# Altium schematic symbol library Lib Sch Compo.SchLib: 155 symbols
Pins are listed as number, name and electrical type; pins without a type are passive.

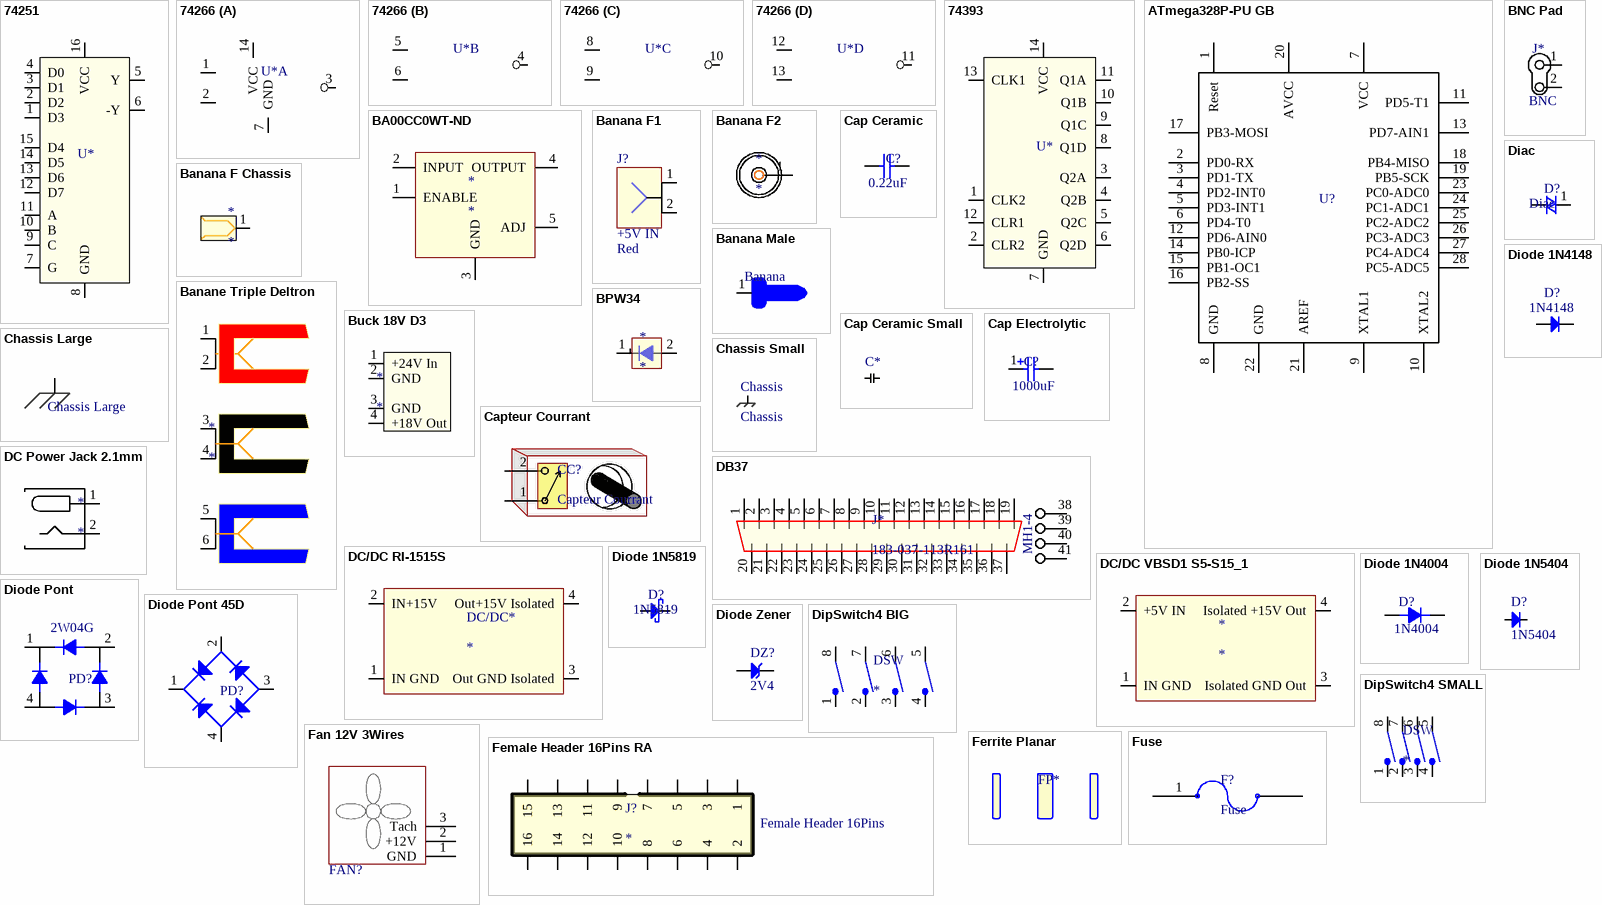
[diagram p0: symbols 74251 to Fuse]

## 74251
designator U*  (value not drawn)
74251
pins: 1 D3, 2 D2, 3 D1, 4 D0, 5 Y, 6 -Y, 7 G, 8 GND, 9 C, 10 B, 11 A, 12 D7, 13 D6, 14 D5, 15 D4, 16 VCC

## 74266
designator U*  (value not drawn)
74266
part A pins: 1, 2, 3, 7 GND, 14 VCC
part B pins: 4, 5, 6
part C pins: 8, 9, 10
part D pins: 11, 12, 13

## 74393
designator U*  (value not drawn)
74393
pins: 1 CLK2, 2 CLR2, 3 Q2A, 4 Q2B, 5 Q2C, 6 Q2D, 7 GND, 8 Q1D, 9 Q1C, 10 Q1B, 11 Q1A, 12 CLR1, 13 CLK1, 14 VCC

## ATmega328P-PU GB
designator U?
Atmel 28Dip Arduino; Published: 1-Apr-2010; DatasheetVersion: revA, Jan-2010; PackageVersion: revB, Sep-2001; PackageReference: 28P3; Publisher: Altium Limited; PackageDescription: 28-lead (0.300"/7.62mm Wide) Plastic Dual Inline Package (PDIP); Supplier 1: Digi-Key; Supplier Part Number 1: ATMEGA328P-PU-ND; Supplier 2: Farnell; Supplier Part Number 2: 1715487; Supplier 3: Mouser; Supplier Part Number 3: 556-ATMEGA328P-PU; ComponentLink1Description: Manufacturer Link; ComponentLink1URL: http://www.atmel.com/products/avr/default.asp?; ComponentLink2Description: ATmega48A/48PA/88A/88PA/168A/168PA/328/328P Datasheet; ComponentLink2URL: http://www.atmel.com/dyn/resources/prod_documents/8271.pdf; ComponentLink3Description: ATmega48A/48PA/88A/88PA/168A/168PA/328/328P Summary; ComponentLink3URL: http://www.atmel.com/dyn/resources/prod_documents/8271S.pdf; ComponentLink4Description: Atmel.com Home; ComponentLink4URL: http://www.atmel.com
footprint DIP28
pins: 1 Reset, 2 PD0-RX, 3 PD1-TX, 4 PD2-INT0, 5 PD3-INT1, 6 PD4-T0, 7 VCC (power), 8 GND (power), 9 XTAL1, 10 XTAL2, 11 PD5-T1, 12 PD6-AIN0, 13 PD7-AIN1, 14 PB0-ICP, 15 PB1-OC1, 16 PB2-SS, 17 PB3-MOSI, 18 PB4-MISO, 19 PB5-SCK, 20 AVCC (power), 21 AREF (power), 22 GND (power), 23 PC0-ADC0, 24 PC1-ADC1, 25 PC2-ADC2, 26 PC3-ADC3, 27 PC4-ADC4, 28 PC5-ADC5

## BA00CC0WT-ND
designator *
Regulator Variable
footprint TO220FP-5 (TO220 Full Body)
pins: 1 ENABLE, 2 INPUT, 3 GND, 4 OUTPUT, 5 ADJ

## Banana F1
designator J?  Free Text: +5V IN  Color: Red  (hidden comment: Banana F1)
Banana Female; LatestRevisionDate: 17-Jul-2002; LatestRevisionNote: Re-released for DXP Platform.; Publisher: Altium Limited
signal-integrity model Connector
footprint Banana Plug Deltron
footprint Banane Miniature
pins: 1, 2

## Banana F2
designator *
Banana Female Safety
pins: 1

## Banana F Chassis
designator *
Banana F Chassis
footprint Banane Miniature
pins: 1

## Banana Male
designator Banana  (value not drawn)
Banana for Cable
footprint Chassis Pad .375 (Chassis Pad)
footprint Banane Male (Johnson 108-0753-001)
pins: 1

## Banane Triple Deltron
designator *
Banane Triple Deltron
footprint Banana Plug Deltron Triple
pins: 1, 2, 3, 4, 5, 6

## BNC Pad
designator J*  Usage: BNC  (hidden comment: BNC Pad)
footprint BNC Pad
pins: 1, 2

## BPW34
designator *
Photo Diode
footprint bpw34 (BPW34 Trough Hole)
pins: 1, 2

## Buck 18V D3
designator *
Buck 18V D3
footprint Buck 18V D3
pins: 1 +24V In, 2 GND, 3 GND, 4 +18V Out

## Cap Ceramic
designator C?  value 0.22uF  (hidden comment: Cap Ceramic)
Published: 8-Jun-2000; LatestRevisionDate: 17-Jul-2002; LatestRevisionNote: Re-released for DXP Platform.; PackageReference: RAD-0.3; Publisher: Altium Limited; PackageDescription: Radial Cap, Thru-Hole; 2 Leads; 0.3 in Pin Spacing
simulation model CAP (Capacitor)
signal-integrity model Cap
footprint Cap CER RAD-0.1
footprint Cap CER RAD-0.15
footprint Cap CER RAD-0.2
footprint Cap CER RAD-0.2 Big
footprint Cap CER RAD-0.3
footprint Cap CER RAD-0.9
footprint Cap Film 1102x1654 (Cap Film 1654x1102)
footprint Cap Film 150x520
footprint Cap Film 200x520
footprint Cap Film 230x700
footprint Cap Film 450x660 (Cap 660x450)
pins: 1, 2

## Cap Ceramic Small
designator C*  (value not drawn)
Cap Ceramic
footprint Cap CER RAD-0.1
footprint Cap CER RAD-0.15
footprint Cap CER RAD-0.2
footprint Cap CER RAD-0.2 Big
footprint Cap CER RAD-0.3
pins: 1, 2

## Cap Electrolytic
designator C?  value 1000uF  (hidden comment: Cap Electrolytic)
Published: 8-Jun-2000; LatestRevisionDate: 17-Jul-2002; LatestRevisionNote: Re-released for DXP Platform.; PackageReference: RB7.6-15; Publisher: Altium Limited; PackageDescription: Polarized Capacitor (Radial); 2 Leads
simulation model CAP (Capacitor)
signal-integrity model Cap Pol
footprint Cap Rad Round 0.325D 0.2Pad (Electrolytic Radial - 0.325D / 0.2Pad)
footprint Cap Rad Round 0.510D 0.2Pad (Electrolytic Radial - 0.510D / 0.2Pad)
footprint Cap Rad Round 0.210D 0.1Pad (Cap Rad Round 0.210 0.1Pad)
footprint Cap Rad Round 0.210D 0.15Pad (Cap Rad Round 0.210 0.15Pad)
footprint Cap Rad Round 0.400D 0.2Pad
footprint Cap Rad Round 0.260D 0.1Pad (Cap Rad Round 0.260 0.1Pad)
footprint Cap Rad Round 0.260D 0.15Pad (Cap Rad Round 0.260 0.15Pad)
pins: 1 +, 2
1 alternate drawing of the same symbol

## Capteur Courrant
designator CC?
Capteur de Courrant
pins: 1, 2

## Chassis Large
designator ?
Chassis Symbol
footprint Chassis Pad
pins: 1 (power) "Chassis"

## Chassis Small
designator Chassis, comment Chassis
Chassis Symbol
footprint Chassis Pad
pins: 1 (power) "Chassis Connection"

## DB37
designator J*, comment 183-037-113R161
DB37 RA PCB Pins Norcomp
pins: 1, 2, 3, 4, 5, 6, 7, 8, 9, 10, 11, 12, 13, 14, 15, 16, 17, 18, 19, 20, 21, 22, 23, 24, 25, 26, 27, 28, 29, 30, 31, 32, 33, 34, 35, 36, 37, 38, 39, 40, 41
text: MH1-4

## DC Power Jack 2.1mm
designator *
Power Jack
footprint DC Power Jack 2.1mm (CUI  PJ-063AH)
pins: 1, 2

## DC/DC RI-1515S
designator DC/DC*
DC/DC
pins: 1 IN GND, 2 IN+15V, 3 Out GND Isolated, 4 Out+15V Isolated

## DC/DC VBSD1 S5-S15_1
designator *
DC/DC
footprint DC/DC VBSD1 (DC/DC)
pins: 1 IN GND, 2 +5V IN, 3 Isolated GND Out, 4 Isolated +15V Out

## Diac
designator D?
Published: 8-Jun-2000; LatestRevisionDate: 17-Jul-2002; LatestRevisionNote: Re-released for DXP Platform.; DatasheetVersion: 1997; PackageReference: DO-35; Publisher: Altium Limited; PackageDescription: Diode, Axial; Body 3.8 x 1.9 mm (LxDia. max), Lead Dia. 0.53 mm (max); Code_JEDEC: DO-204-AH; ComponentLink1Description: Manufacturer Link; ComponentLink1URL: http://www.fairchildsemi.com/; ComponentLink2Description: Datasheet; ComponentLink2URL: http://www.fairchildsemi.com/ds/1N%2F1N4148.pdf
footprint DO-35 (Diode, Axial; Body 3.8 x 1.9 mm (LxDia. max), Lead Dia. 0.53 mm (max))
footprint DO-35A - UL (Diode, Axial; Body 4.6 x 1.9 mm (LxDia. max), Lead Dia. 0.53 mm (max))
footprint DO-35 Diode
pins: 1 K, 2 A

## Diode 1N4004
designator D?  value 1N4004  (hidden comment: Diode 1N4004)
Diode; Published: 8-Jun-2000; LatestRevisionDate: 17-Jul-2002; LatestRevisionNote: Re-released for DXP Platform.; PackageReference: AXIAL-0.4; Publisher: Altium Limited; PackageDescription: Axial Device, Thru-Hole; 2 Leads; 0.4 in Pin Spacing
footprint DO-41 (Diode 400mil Spacin)
pins: 1, 2

## Diode 1N4148
designator D?, comment 1N4148
Diode; Published: 8-Jun-2000; LatestRevisionDate: 17-Jul-2002; LatestRevisionNote: Re-released for DXP Platform.; DatasheetVersion: 1997; PackageReference: DO-35; Publisher: Altium Limited; PackageDescription: Diode, Axial; Body 3.8 x 1.9 mm (LxDia. max), Lead Dia. 0.53 mm (max); Code_JEDEC: DO-204-AH; ComponentLink1Description: Manufacturer Link; ComponentLink1URL: http://www.fairchildsemi.com/; ComponentLink2Description: Datasheet; ComponentLink2URL: http://www.fairchildsemi.com/ds/1N%2F1N4148.pdf
simulation model 1N4148 (DIODE)
signal-integrity model 1N4148
footprint DO-35 (Footprint not found)
pins: 1 K, 2 A

## Diode 1N5404
designator D?, comment 1N5404
Diode; Published: 8-Jun-2000; LatestRevisionDate: 17-Jul-2002; LatestRevisionNote: Re-released for DXP Platform.; DatasheetVersion: 1998; PackageVersion: Aug-1999; PackageReference: DO-201AD; Publisher: Altium Limited; PackageDescription: Diode, Axial; Body 9.5 x 5.6 mm (LxDia. max), Lead Dia. 1.32 mm (max); ComponentLink1Description: Manufacturer Link; ComponentLink1URL: http://www.fairchildsemi.com/; ComponentLink2Description: Datasheet; ComponentLink2URL: http://www.fairchildsemi.com/ds/1N%2F1N5400.pdf
footprint DO-201AD (Diode, Axial; Body 9.5 x 5.6 mm (LxDia. max), Lead Dia. 1.32 mm (max))
simulation model 1N5404 (DIODE)
signal-integrity model 1N5404
pins: 1 K, 2 A

## Diode 1N5819
designator D?, comment 1N5819
Diode; Published: 8-Jun-2000; LatestRevisionDate: 17-Jul-2002; LatestRevisionNote: Re-released for DXP Platform.; DatasheetVersion: 1997; PackageReference: DO-35; Publisher: Altium Limited; PackageDescription: Diode, Axial; Body 3.8 x 1.9 mm (LxDia. max), Lead Dia. 0.53 mm (max); Code_JEDEC: DO-204-AH; ComponentLink1Description: Manufacturer Link; ComponentLink1URL: http://www.fairchildsemi.com/; ComponentLink2Description: Datasheet; ComponentLink2URL: http://www.fairchildsemi.com/ds/1N%2F1N4148.pdf
footprint DO-35 (Diode, Axial; Body 3.8 x 1.9 mm (LxDia. max), Lead Dia. 0.53 mm (max))
simulation model 1N4148 (DIODE)
signal-integrity model 1N4148
pins: 1 K, 2 A

## Diode Pont
designator PD?  value 2W04G  (hidden comment: Diode Pont)
Published: 8-Jun-2000; LatestRevisionDate: 17-Jul-2002; LatestRevisionNote: Re-released for DXP Platform.; PackageReference: AXIAL-0.4; Publisher: Altium Limited; PackageDescription: Axial Device, Thru-Hole; 2 Leads; 0.4 in Pin Spacing
footprint Pont Diode 2W04G
pins: 1, 2, 3, 4

## Diode Pont 45D
designator PD?  (value not drawn)
Published: 8-Jun-2000; LatestRevisionDate: 17-Jul-2002; LatestRevisionNote: Re-released for DXP Platform.; PackageReference: AXIAL-0.4; Publisher: Altium Limited; PackageDescription: Axial Device, Thru-Hole; 2 Leads; 0.4 in Pin Spacing
footprint Pont Diode 2W04G
pins: 1, 2, 3, 4

## Diode Zener
designator DZ?  value 2V4  (hidden comment: Diode Zener)
Diode; Published: 8-Jun-2000; LatestRevisionDate: 17-Jul-2002; LatestRevisionNote: Re-released for DXP Platform.; PackageReference: DIODE-0.7; Publisher: Altium Limited; PackageDescription: Diode, Thru-Hole; 2 Leads; 0.7 in Pin Spacing
simulation model ZENER (Diode)
signal-integrity model D Zener
footprint DO-35A - UL (Diode, Axial; Body 4.6 x 1.9 mm (LxDia. max), Lead Dia. 0.53 mm (max))
footprint Diode 5W
footprint DO-35 Diode
pins: 1 K, 2 A

## DipSwitch4 BIG
designator DSW
Switch
footprint DIP8
pins: 1, 2, 3, 4, 5, 6, 7, 8

## DipSwitch4 SMALL
designator DSW
Switch
footprint DIP8
pins: 1, 2, 3, 4, 5, 6, 7, 8

## Fan 12V 3Wires
designator FAN?  (value not drawn)
Published: 24-Mar-1999; LatestRevisionDate: 17-Jul-2002; LatestRevisionNote: Re-released for DXP Platform.; PackageReference: RAD-0.4; Publisher: Altium Limited; PackageDescription: Radial Cap, Thru-Hole; 2 Leads; 0.4 in Pin Spacing
footprint FAN 12V 3 Wires + HS
pins: 1 GND, 2 +12V, 3 Tach

## Female Header 16Pins RA
designator J?  Connector Type: Female Header 16Pins
Female Header 16Pins RA
footprint MTA100-8 M (MTA100-6 M)
footprint Female Header 16Pins RA
pins: 1, 2, 3, 4, 5, 6, 7, 8, 9, 10, 11, 12, 13, 14, 15, 16

## Ferrite Planar
designator FP*  (value not drawn)
footprint Ferrite Planar

## Fuse
designator F?
footprint Fuse Holder 3mm
pins: 1, 2

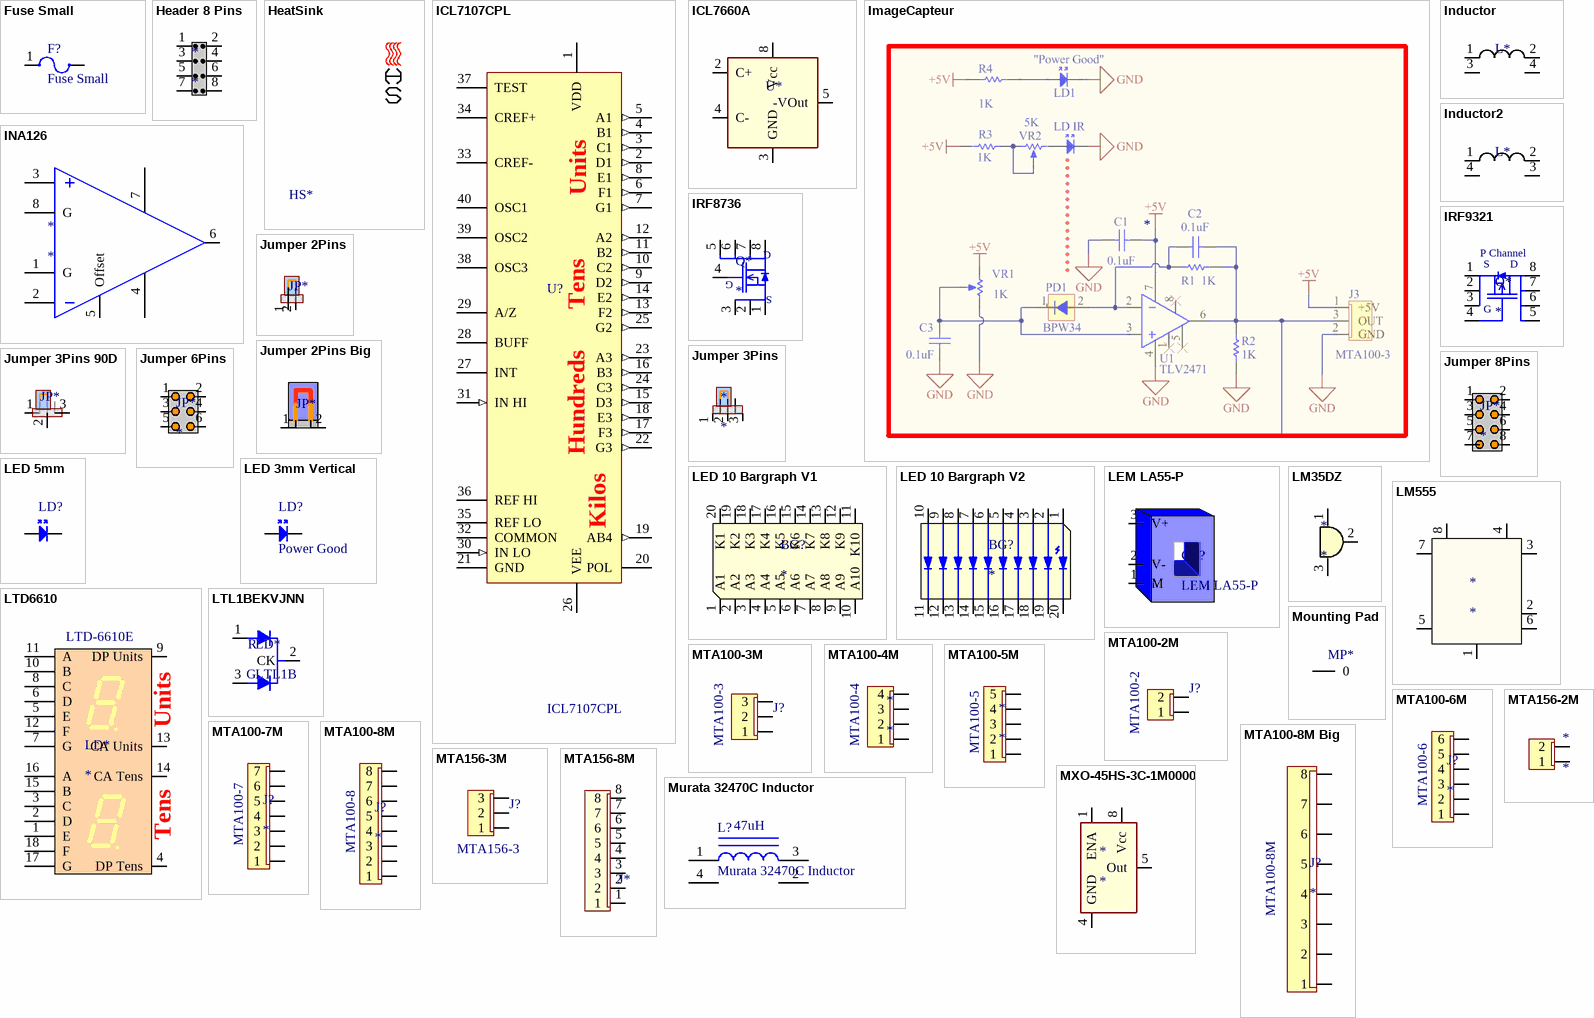
[diagram p1: symbols Fuse Small to MXO-45HS-3C-1M0000]

## Fuse Small
designator F?
footprint Fuse Holder 3mm
pins: 1, 2

## Header 8 Pins
designator *
Header 8 Pins
footprint Jumper 8Pins SQ
pins: 1, 2, 3, 4, 5, 6, 7, 8

## HeatSink
designator HS*  (value not drawn)
Published: 24-Mar-1999; LatestRevisionDate: 17-Jul-2002; LatestRevisionNote: Re-released for DXP Platform.; PackageReference: RAD-0.4; Publisher: Altium Limited; PackageDescription: Radial Cap, Thru-Hole; 2 Leads; 0.4 in Pin Spacing
footprint HeatSink V8511W Assmann
footprint FAN 12V 3 WIRES + HS
footprint HeatSink Aavid 532602B02500G VGood (HeatSink Aavid 532602B02500G)
footprint HeatSink Aavid 532602B02500G VGood-Hole (HeatSink Aavid 532602B02500G)
footprint HeatSink Copper (Copper Plate)
footprint HeatSink V8511W Assmann Ventillé (HeatSink V8511W Ventillé)
footprint HeatSink Modulaire

## ICL7107CPL
designator U?
3½ Digit A/D Converter; Published: 16-Jan-2001; LatestRevisionDate: 29-May-2009; LatestRevisionNote: Component Body Added.; DatasheetVersion: 1987; PackageVersion: RevA, 21-0044; PackageReference: PL40; Publisher: Altium Limited; PackageDescription: DIP, 40-Pin, Row Spacing 15.24 mm, Pitch 2.54 mm; ComponentLink1Description: Manufacturer Link; ComponentLink1URL: http://www.maxim-ic.com/; ComponentLink2Description: Datasheet; ComponentLink2URL: http://pdfserv.maxim-ic.com/en/ds/ICL7106-ICL7107.pdf
footprint PL40 (DIP, 40-Leads, Row Spacing 15.24mm, Pitch 2.54mm, Body 52.08x13.98mm)
3D model PL40 (DIP, 40-Pin, Row Spacing 15.24 mm, Pitch 2.54 mm)
pins: 1 VDD (power), 2 D1 (out), 3 C1 (out), 4 B1 (out), 5 A1 (out), 6 F1 (out), 7 G1 (out), 8 E1 (out), 9 D2 (out), 10 C2 (out), 11 B2 (out), 12 A2 (out), 13 F2 (out), 14 E2 (out), 15 D3 (out), 16 B3 (out), 17 F3 (out), 18 E3 (out), 19 AB4 (out), 20 POL, 21 GND (power), 22 G3 (out), 23 A3 (out), 24 C3 (out), 25 G2 (out), 26 VEE (power), 27 INT, 28 BUFF, 29 A/Z, 30 IN LO (in), 31 IN HI (in), 32 COMMON, 33 CREF-, 34 CREF+, 35 REF LO, 36 REF HI, 37 TEST, 38 OSC3, 39 OSC2, 40 OSC1
text: Units; Tens; Hundreds; Kilos

## ICL7660A
designator U*  (value not drawn)
Charge Pump
footprint DIP8
pins: 2 C+, 3 GND, 4 C-, 5 -VOut, 8 Vcc

## ImageCapteur
designator *  (value not drawn)

## INA126
designator *
Op-Amp DIP8
footprint DIP8
pins: 1 G, 2 IN-, 3 IN+, 4 -Vcc, 5 Offset, 6 Out, 7 +Vcc, 8 G

## Inductor
designator L*  (value not drawn)
footprint Inductance Toroid
pins: 1, 2, 3, 4

## Inductor2
designator L*  (value not drawn)
footprint Inductance Toroid
pins: 1, 2, 3, 4

## IRF8736
designator Q*
Transistor
footprint SO8 (SMT SO8)
pins: 1 S, 2, 3, 4, 5, 6, 7, 8
text: D; G

## IRF9321
designator Q*
Transistor
footprint SO8 (SMT SO8)
pins: 1, 2, 3, 4, 5, 6, 7, 8
text: P Channel; S; D; G

## Jumper 2Pins
designator JP*
Jumper 2Pins
footprint Jumper 2 Pins
pins: 1, 2

## Jumper 2Pins Big
designator JP*
Jumper 2Pins Big
footprint Jumper 2 Pins
pins: 1, 2

## Jumper 3Pins
designator *
Jumper 3Pins
footprint Jumper 3Pins
pins: 1, 2, 3

## Jumper 3Pins 90D
designator JP*  (value not drawn)
Jumper 3Pins 90D
footprint Jumper 3Pins
pins: 1, 2, 3

## Jumper 6Pins
designator JP*
Jumper 6Pins
footprint Jumper 6Pins SQ
pins: 1, 2, 3, 4, 5, 6

## Jumper 8Pins
designator JP*
Jumper 8Pins
footprint Jumper 8Pins SQ
pins: 1, 2, 3, 4, 5, 6, 7, 8

## LED 3mm Vertical
designator LD?, comment Power Good
LED 3mm; Comment_1: LED 3mm Vertical; Published: 8-Jun-2000; LatestRevisionDate: 08-Jul-2005; LatestRevisionNote: Mech Layer 1 removed.; PackageReference: LED-1; Publisher: Altium Limited; PackageDescription: LED; 2 Leads
simulation model LED1 (Diode)
footprint LED 3mm Vertical (LED 2 Leads 3mm Vertical)
pins: 1 A, 2 K

## LED 5mm
designator LD?
LED 5mm; Published: 8-Jun-2000; LatestRevisionDate: 08-Jul-2005; LatestRevisionNote: Mech Layer 1 removed.; PackageReference: LED-1; Publisher: Altium Limited; PackageDescription: LED; 2 Leads; Comment_1: LED 5mm
simulation model LED1 (Diode)
footprint LED 5mm V
footprint LED 5mm V-IR
footprint Led 5mm H-TB Pads-K On Top
footprint Led 5mm H-TB Pads-A On Top
footprint Led 5mm H-TH Pads
footprint Led 5mm H-TH Pads Reverse
pins: 1 A, 2 K

## LED 10 Bargraph V1
designator BG?
LED 10 Bargraph
footprint Bargraph 10 Leds
pins: 1 A1, 2 A2, 3 A3, 4 A4, 5 A5, 6 A6, 7 A7, 8 A8, 9 A9, 10 A10, 11 K10, 12 K9, 13 K8, 14 K7, 15 K6, 16 K5, 17 K4, 18 K3, 19 K2, 20 K1

## LED 10 Bargraph V2
designator BG?
LED 10 Bargraph
footprint Bargraph 10 Leds
pins: 1 A1, 2 A2, 3 A3, 4 A4, 5 A5, 6 A6, 7 A7, 8 A8, 9 A9, 10 A10, 11 K10, 12 K9, 13 K8, 14 K7, 15 K6, 16 K5, 17 K4, 18 K3, 19 K2, 20 K1

## LEM LA55-P
designator CC?
footprint LEM LA55-P
pins: 1 M, 2 V-, 3 V+

## LM35DZ
designator *
Temp Sensor
footprint TO-92 V  Wide (TO-92 V Wide)
pins: 1, 2, 3

## LM555
designator *
LM555
footprint DIP8
pins: 1, 2, 3, 4, 5, 6, 7, 8

## LTD6610
designator LD*  PartNumber: LTD-6610E
LTD6610
footprint Led Display
pins: 1 E, 2 D, 3 C, 4 DP Tens, 5 E, 6 D, 7 G, 8 C, 9 DP Units, 10 B, 11 A, 12 F, 13 CA Units, 14 CA Tens, 15 B, 16 A, 17 G, 18 F
text: Units; Tens

## LTL1BEKVJNN
designator LD*, comment LTL1B
LED 2 Colors
footprint LED 3mm Vertical R/G
pins: 1 R, 2 CK, 3 G

## Mounting Pad
designator MP*
Mounting Pad
footprint Poteau Keystone 9082
footprint Mounting Pad Screw
pins: 0

## MTA100-2M
designator J?, comment Connector Type: MTA100-2  (hidden comment: Input)
MTA100-2M
signal-integrity model Connector
footprint MTA100-2M (MTA100-2 M)
pins: 1, 2

## MTA100-3M
designator J?, comment Connector Type: MTA100-3  (hidden comment: Input)
MTA100-3M
signal-integrity model Connector
footprint MTA100-3M
pins: 1, 2, 3

## MTA100-4M
designator *
MTA100-4M
footprint MTA100-4M
pins: 1, 2, 3, 4
text: MTA100-4

## MTA100-5M
designator *
MTA100-5M
footprint MTA100-5M
pins: 1, 2, 3, 4, 5
text: MTA100-5

## MTA100-6M
designator J?  Connector Type: MTA100-6
MTA100-6M
footprint MTA100-6M
pins: 1, 2, 3, 4, 5, 6

## MTA100-7M
designator J?  Connector Type: MTA100-7
MTA100-7M
footprint Model Name (Footprint not found)
pins: 1, 2, 3, 4, 5, 6, 7

## MTA100-8M
designator J?  Connector Type: MTA100-8
MTA100-8M
footprint MTA100-8 M (MTA100-6 M)
footprint MTA100-8M
pins: 1, 2, 3, 4, 5, 6, 7, 8

## MTA100-8M Big
designator J?  Connector Type: MTA100-8M
MTA100-8M Big
footprint MTA100-8M
pins: 1, 2, 3, 4, 5, 6, 7, 8

## MTA156-2M
designator *
MTA156-2M
footprint MTA156-2M
pins: 1, 2

## MTA156-3M
designator J?, comment Connector Type: MTA156-3  (hidden comment: Input)
MTA156-3M
signal-integrity model Connector
footprint MTA156-3M
pins: 1, 2, 3

## MTA156-8M
designator J*  (value not drawn)
MTA156-8M
footprint MTA156-8M
pins: 1, 2, 3, 4, 5, 6, 7, 8

## Murata 32470C Inductor
designator L?  value 47uH
Published: 24-Mar-1999; LatestRevisionDate: 17-Jul-2002; LatestRevisionNote: Re-released for DXP Platform.; PackageReference: AXIAL-0.9; Publisher: Altium Limited; PackageDescription: Axial Device, Thru-Hole; 2 Leads; 0.9 in Pin Spacing
simulation model INDUCTOR (Inductor)
signal-integrity model Inductor Iron
footprint Murata 32470C (Inductor 47uH 2.2A)
pins: 1, 2, 3, 4

## MXO-45HS-3C-1M0000
designator *
Oscillator 8DIP
footprint DIP8-OSC
pins: 1 ENA, 4 GND, 5 Out, 8 Vcc

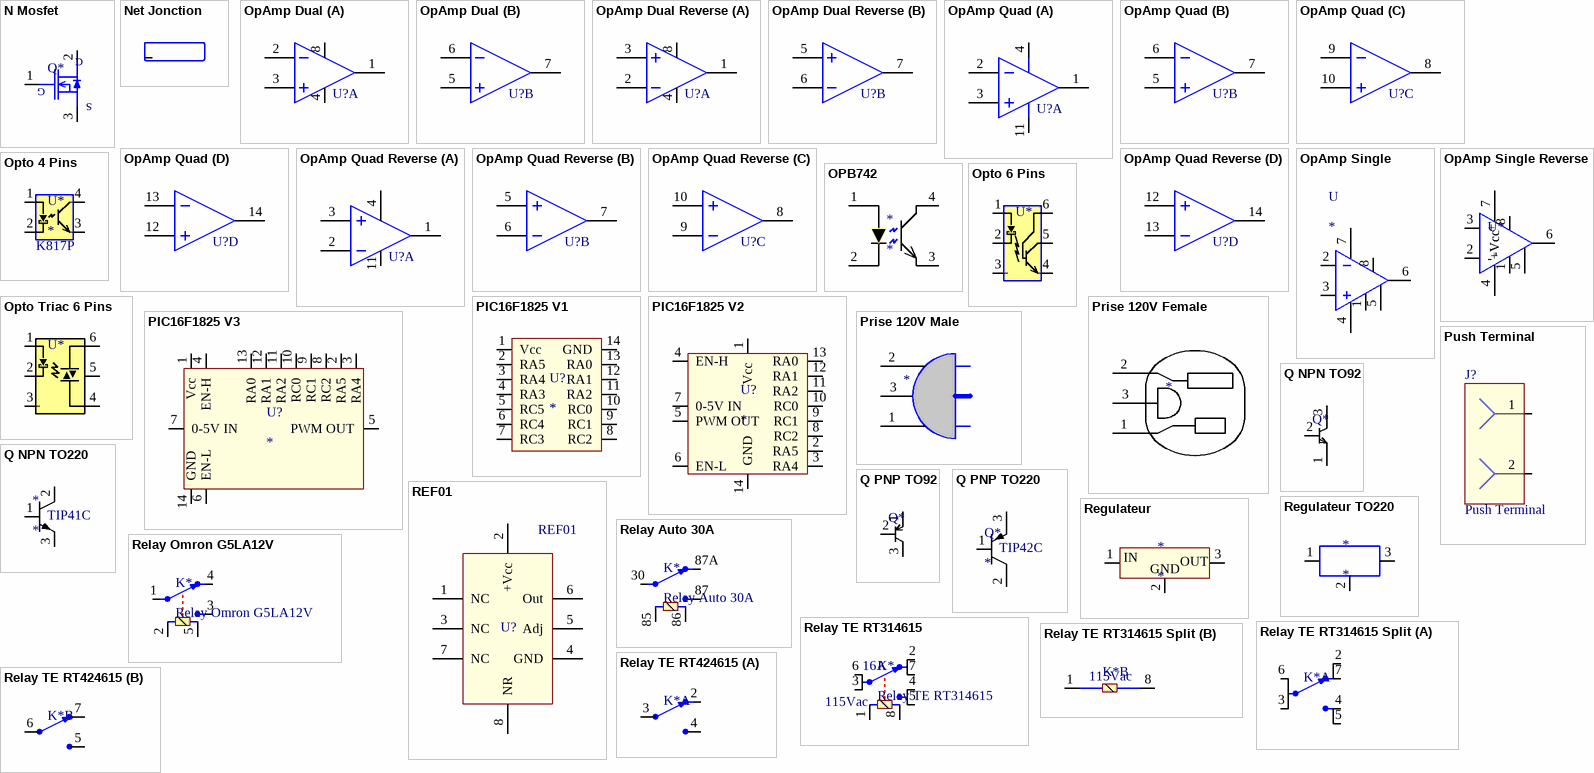
[diagram p2: symbols N Mosfet to Relay TE RT424615]

## N Mosfet
designator Q*  (value not drawn)
Transistor
footprint SO8 (SMT SO8)
footprint TO-220 V (T0-220 V)
footprint TO-220 H+HeatPad (T0-220 H+HeatPad)
footprint TO-92 V
pins: 1 G, 2 D, 3 S

## Net Jonction
designator *  (value not drawn)
pins: 1

## OpAmp Dual
designator U?
Op-Amp DIP8; Published: 15-Apr-2002; LatestRevisionDate: 13-Apr-2006; LatestRevisionNote: IPC-7351 Footprint Added.; DatasheetVersion: Mar-1989; PackageVersion: Jan-1998; PackageReference: D008; Publisher: Altium Limited; PackageDescription: 8-Pin Small Outline Integrated Circuit 1.27 mm Pitch; Code_IPC: SOIC127P600-8; ComponentLink1Description: Manufacturer Link; ComponentLink1URL: http://www.ti.com/; ComponentLink2Description: Datasheet; ComponentLink2URL: http://www-s.ti.com/sc/ds/tlc272.pdf
footprint D008_L (SOIC, 8-Leads, Body 4.9x3.9mm, Pitch 1.27mm, IPC High Density)
footprint D008_M (SOIC, 8-Leads, Body 4.9x3.9mm, Pitch 1.27mm, IPC Low Density)
footprint D008_M (SOIC, 8-Leads, Body 4.9x3.9mm, Pitch 1.27mm, IPC Low Density)
3D model D008 (8-Pin Small Outline Integrated Circuit 1.27 mm Pitch)
footprint P008 (DIP; 8 Leads; Row Spacing 7.62 mm; Pitch 2.54 mm)
footprint P008 (DIP; 8 Leads; Row Spacing 7.62 mm; Pitch 2.54 mm)
footprint DIP8
part A pins: 1 OUT, 2 IN-, 3 IN+, 4 -Vcc, 8 +Vcc
part B pins: 5 IN+, 6 IN-, 7 OUT

## OpAmp Dual Reverse
designator U?
Op-Amp DIP8; Published: 15-Apr-2002; LatestRevisionDate: 13-Apr-2006; LatestRevisionNote: IPC-7351 Footprint Added.; DatasheetVersion: Mar-1989; PackageVersion: Jan-1998; PackageReference: D008; Publisher: Altium Limited; PackageDescription: 8-Pin Small Outline Integrated Circuit 1.27 mm Pitch; Code_IPC: SOIC127P600-8; ComponentLink1Description: Manufacturer Link; ComponentLink1URL: http://www.ti.com/; ComponentLink2Description: Datasheet; ComponentLink2URL: http://www-s.ti.com/sc/ds/tlc272.pdf
footprint D008_L (SOIC, 8-Leads, Body 4.9x3.9mm, Pitch 1.27mm, IPC High Density)
footprint D008_M (SOIC, 8-Leads, Body 4.9x3.9mm, Pitch 1.27mm, IPC Low Density)
footprint D008_M (SOIC, 8-Leads, Body 4.9x3.9mm, Pitch 1.27mm, IPC Low Density)
3D model D008 (8-Pin Small Outline Integrated Circuit 1.27 mm Pitch)
footprint P008 (DIP; 8 Leads; Row Spacing 7.62 mm; Pitch 2.54 mm)
footprint P008 (DIP; 8 Leads; Row Spacing 7.62 mm; Pitch 2.54 mm)
footprint DIP8
part A pins: 1 OUT, 2 IN-, 3 IN+, 4 -Vcc, 8 +Vcc
part B pins: 5 IN+, 6 IN-, 7 OUT

## OpAmp Quad
designator U?
Op-Amp DIP14; Published: 15-Apr-2002; LatestRevisionDate: 04-Mar-2005; LatestRevisionNote: Stylized 3D Model Added.; DatasheetVersion: Aug-1988; PackageVersion: Oct-1995; PackageReference: N014; Publisher: Altium Limited; PackageDescription: DIP; 14 Leads; Row Spacing 7.62 mm; Pitch 2.54 mm; ComponentLink1Description: Manufacturer Link; ComponentLink1URL: http://www.ti.com/; ComponentLink2Description: Datasheet; ComponentLink2URL: http://www-s.ti.com/sc/ds/tlc274a.pdf
footprint N014 (DIP; 14 Leads; Row Spacing 7.62 mm; Pitch 2.54 mm)
3D model N014 (DIP; 14 Leads; Row Spacing 7.62 mm; Pitch 2.54 mm)
footprint DIP14
part A pins: 1 OUT, 2 IN-, 3 IN+, 4 +Vcc, 11 -Vcc
part B pins: 5 IN+, 6 IN-, 7 OUT
part C pins: 8 OUT, 9 IN-, 10 IN+
part D pins: 12 IN+, 13 IN-, 14 OUT

## OpAmp Quad Reverse
designator U?
Op-Amp DIP14; Published: 15-Apr-2002; LatestRevisionDate: 04-Mar-2005; LatestRevisionNote: Stylized 3D Model Added.; DatasheetVersion: Aug-1988; PackageVersion: Oct-1995; PackageReference: N014; Publisher: Altium Limited; PackageDescription: DIP; 14 Leads; Row Spacing 7.62 mm; Pitch 2.54 mm; ComponentLink1Description: Manufacturer Link; ComponentLink1URL: http://www.ti.com/; ComponentLink2Description: Datasheet; ComponentLink2URL: http://www-s.ti.com/sc/ds/tlc274a.pdf
footprint N014 (DIP; 14 Leads; Row Spacing 7.62 mm; Pitch 2.54 mm)
3D model N014 (DIP; 14 Leads; Row Spacing 7.62 mm; Pitch 2.54 mm)
footprint DIP14
part A pins: 1 OUT, 2 IN-, 3 IN+, 4 +Vcc, 11 -Vcc
part B pins: 5 IN+, 6 IN-, 7 OUT
part C pins: 8 OUT, 9 IN-, 10 IN+
part D pins: 12 IN+, 13 IN-, 14 OUT

## OpAmp Single
designator U
Op-Amp DIP8
footprint p008
footprint DIP8
pins: 1 B "Balance", 2 - "-In", 3 + "+In", 4 -Vcc, 5 B "Balance", 6 Out "Output", 7 +Vcc, 8 NC

## OpAmp Single Reverse
designator U*  (value not drawn)
Op-Amp DIP8
footprint p008
footprint DIP8
pins: 1 B "Balance", 2 - "-In", 3 + "+In", 4 -Vcc, 5 B "Balance", 6 Out "Output", 7 +Vcc, 8 NC

## OPB742
designator *
Opto Reflector
footprint OPB742 (OPB742 Reflective Sensor)
footprint OPB742 Side (OPB742 Reflective Sensor)
pins: 1, 2, 3, 4

## Opto 4 Pins
designator U*  Part Number: K817P
Opto 4 Pins; Manufacturer: Vishay
footprint DIP4
pins: 1, 2, 3, 4

## Opto 6 Pins
designator U*  (value not drawn)
Opto 6 Pins
footprint DIP6
pins: 1, 2, 3, 4, 5, 6

## Opto Triac 6 Pins
designator U*  (value not drawn)
Opto Triac 6 Pins
footprint DIP6
pins: 1, 2, 3, 4, 5, 6

## PIC16F1825 V1
designator U?
PIC16F1825
footprint N014
footprint DIP14
pins: 1 Vcc, 2 RA5, 3 RA4, 4 RA3, 5 RC5, 6 RC4, 7 RC3, 8 RC2, 9 RC1, 10 RC0, 11 RA2, 12 RA1, 13 RA0, 14 GND

## PIC16F1825 V2
designator U?
PIC16F1825
footprint N014
footprint DIP14
pins: 1 Vcc, 2 RA5, 3 RA4, 4 EN-H, 5 PWM OUT, 6 EN-L, 7 0-5V IN, 8 RC2, 9 RC1, 10 RC0, 11 RA2, 12 RA1, 13 RA0, 14 GND

## PIC16F1825 V3
designator U?
PIC16F1825
footprint N014
footprint DIP14
pins: 1 Vcc, 2 RA5, 3 RA4, 4 EN-H, 5 PWM OUT, 6 EN-L, 7 0-5V IN, 8 RC2, 9 RC1, 10 RC0, 11 RA2, 12 RA1, 13 RA0, 14 GND

## Prise 120V Female
designator *  (value not drawn)
pins: 1, 2, 3

## Prise 120V Male
designator *  (value not drawn)
pins: 1, 2, 3

## Push Terminal
designator J?
Text: Branchement Moteur; LatestRevisionDate: 17-Jul-2002; LatestRevisionNote: Re-released for DXP Platform.; Publisher: Altium Limited
signal-integrity model Connector
footprint Push Terminal TE Connectivity (Push Terminal 2 Positions)
pins: 1, 2 1

## Q NPN TO92
designator Q*
NPN
footprint TO-92 V
footprint TO-92 V  Wide (TO-92 V Wide)
pins: 1, 2, 3

## Q NPN TO220
designator *  value TIP41C
NPN
footprint TO-220 H+HeatPad (T0-220 H+HeatPad)
pins: 1, 2, 3

## Q PNP TO92
designator Q*
PNP
footprint TO-92 V
footprint TO-92 V  Wide (TO-92 V Wide)
pins: 1, 2, 3

## Q PNP TO220
designator Q*  value TIP42C
PNP
footprint TO-220 H+HeatPad (T0-220 H+HeatPad)
pins: 1, 2, 3

## REF01
designator U?, comment Part Number: REF01  (hidden comment: V Ref)
Reference Tension
footprint DIP8 (DIP8 Leads - Row Spacing 300mil - Pitch 100mil)
pins: 1 NC, 2 +Vcc, 3 NC, 4 GND, 5 Adj, 6 Out, 7 NC, 8 NR

## Regulateur
designator *
Regulator
footprint OKI-78SR5
pins: 1 IN, 2 GND "Regulateur", 3 OUT

## Regulateur TO220
designator *
Regulator
footprint TO-220 H+HeatPad (T0-220 H+HeatPad)
pins: 1, 2, 3

## Relay Auto 30A
designator K*
Relay Auto
footprint Relay 30A (Relay Auto)
pins: 30, 85, 86, 87, 87A

## Relay Omron G5LA12V
designator K*
footprint Relay 30A (Relay Auto)
footprint Model Name (Footprint not found)
footprint Relay Omron G5LA12V
pins: 1 "COM", 2 "Coil 1", 3 "Coil 2", 4 "NC", 5 "NO"

## Relay TE RT314615
designator K*
footprint Relay 30A (Relay Auto)
footprint Model Name (Footprint not found)
footprint Relay Omron G5LA12V
footprint Relai TE RT314615 (Relai 115Vac 16A)
pins: 1 "Coil 1", 2 "NC", 3 "Coil 2", 4 "Coil 2", 5 "Coil 2", 6 "COM", 7 "Coil 2", 8 "NO"
text: 16A; 115Vac

## Relay TE RT314615 Split
designator K*  (value not drawn)
Relay TE RT314615
footprint Relay 30A (Relay Auto)
footprint Model Name (Footprint not found)
footprint Relay Omron G5LA12V
footprint Relai TE RT314615 (Relai 115Vac 16A)
part A pins: 2 "NC", 3 "Coil 2", 4 "Coil 2", 5 "Coil 2", 6 "COM", 7 "Coil 2"
part B pins: 1 "Coil 1", 8 "NO"
part B text: 115Vac

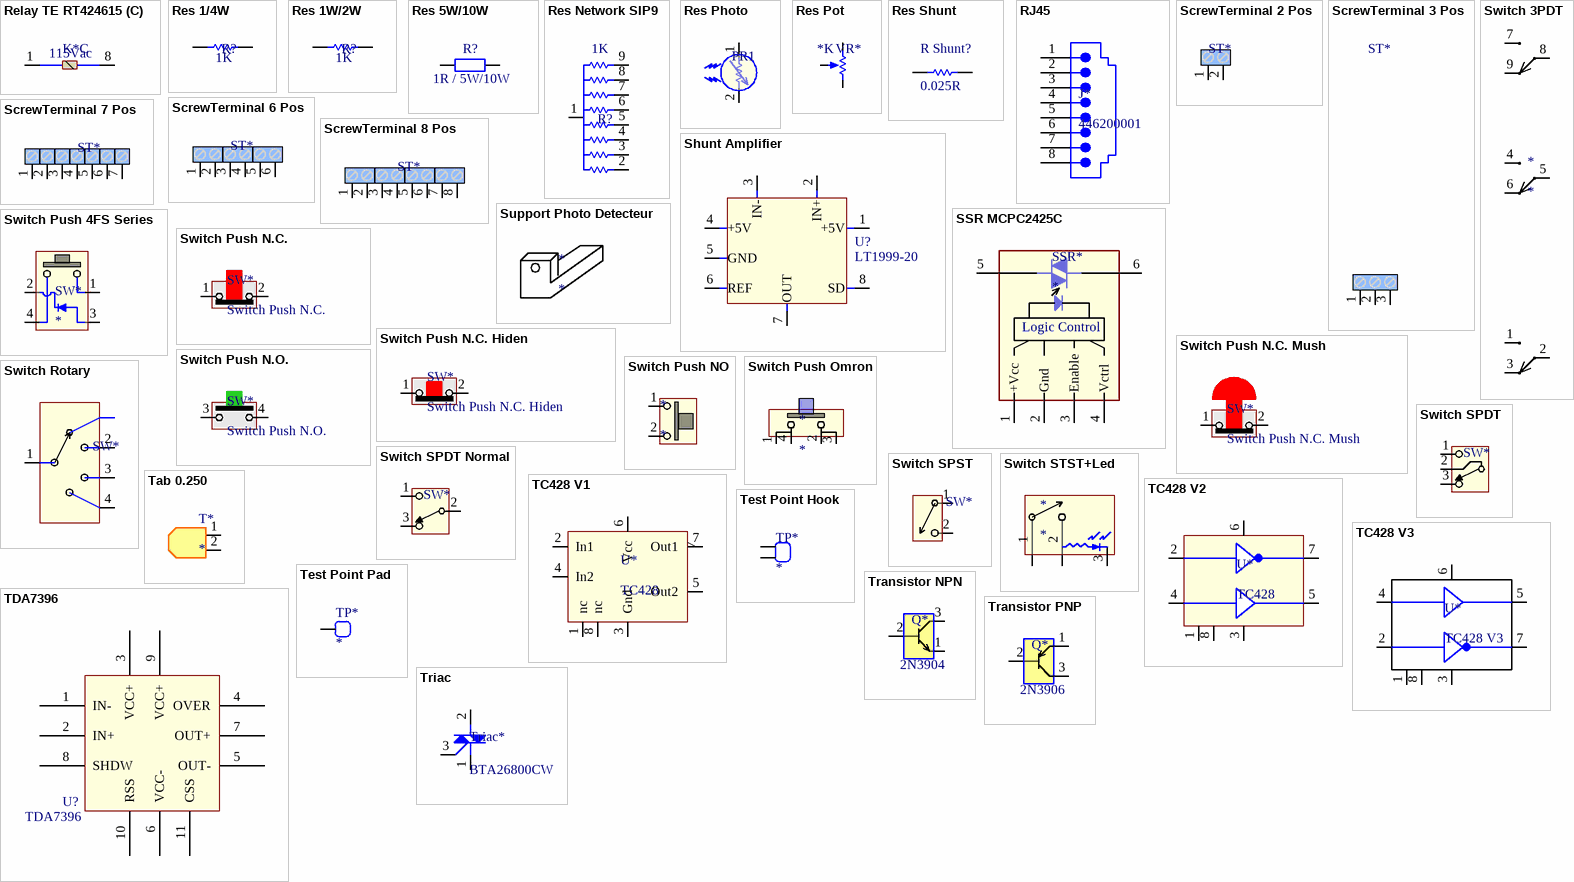
[diagram p3: symbols Relay TE RT424615 to Triac]

## Relay TE RT424615
designator K*  (value not drawn)
footprint Relay 30A (Relay Auto)
footprint Model Name (Footprint not found)
footprint Relay Omron G5LA12V
footprint Relai TE RT314615 (Relai 115Vac 16A)
part A pins: 2 "NC", 3 "Coil 2", 4 "Coil 2"
part B pins: 5, 6, 7
part C pins: 1, 8
part C text: 115Vac

## Res 1/4W
designator R?  value 1K  (hidden comment: Res 1/4W)
Resistor; Published: 8-Jun-2000; LatestRevisionDate: 17-Jul-2002; LatestRevisionNote: Re-released for DXP Platform.; PackageReference: AXIAL-0.3; Publisher: Altium Limited; PackageDescription: Axial Device, Thru-Hole; 2 Leads; 0.3 in Pin Spacing
simulation model RESISTOR (Resistor)
signal-integrity model Res
footprint Res 0.25W 0.4" Step
pins: 1, 2

## Res 1W/2W
designator R?  value 1K  (hidden comment: Res 1W/2W)
Resistor; Published: 8-Jun-2000; LatestRevisionDate: 17-Jul-2002; LatestRevisionNote: Re-released for DXP Platform.; PackageReference: AXIAL-0.3; Publisher: Altium Limited; PackageDescription: Axial Device, Thru-Hole; 2 Leads; 0.3 in Pin Spacing
simulation model RESISTOR (Resistor)
signal-integrity model Res
footprint Res 1W 3D
footprint Res 2W 3D
pins: 1, 2

## Res 5W/10W
designator R?  value 1R / 5W/10W  (hidden comment: Res 5W/10W)
Resistor; Published: 8-Jun-2000; LatestRevisionDate: 17-Jul-2002; LatestRevisionNote: Re-released for DXP Platform.; PackageReference: AXIAL-0.4; Publisher: Altium Limited; PackageDescription: Axial Device, Thru-Hole; 2 Leads; 0.4 in Pin Spacing
simulation model RESISTOR (Resistor)
signal-integrity model Res
footprint Res 5W 3D
footprint Res 10W 3D
pins: 1, 2

## Res Network SIP9
designator R?  value 1K  (hidden comment: Res Network SIP9)
Resistor; Published: 8-Jun-2000; LatestRevisionDate: 17-Jul-2002; LatestRevisionNote: Re-released for DXP Platform.; PackageReference: AXIAL-0.3; Publisher: Altium Limited; PackageDescription: Axial Device, Thru-Hole; 2 Leads; 0.3 in Pin Spacing
simulation model RESISTOR (Resistor)
signal-integrity model Res
footprint SIP9
pins: 1, 2, 3, 4, 5, 6, 7, 8, 9

## Res Photo
designator PR1  (value not drawn)
Photo Cell
footprint Res Photo
pins: 1, 2

## Res Pot
designator VR*  value *K
Resistor Trimmer
footprint Trim 67WR (Trim 10T Vertical)
footprint Trim 68WR (Trim 10T Vertical)
footprint Trim 72PR 400x400 (Trim 1T Horizontal)
footprint Trim CT6EP 280x280 (Trim 1T Horizontal)
footprint Trim 67WR 90D (Trim 10T Vertical)
pins: 1 Top, 2 Tap, 3 Bot

## Res Shunt
designator R Shunt?  value 0.025R  (hidden comment: Res Shunt)
Resistor; Published: 8-Jun-2000; LatestRevisionDate: 17-Jul-2002; LatestRevisionNote: Re-released for DXP Platform.; PackageReference: AXIAL-0.3; Publisher: Altium Limited; PackageDescription: Axial Device, Thru-Hole; 2 Leads; 0.3 in Pin Spacing
simulation model RESISTOR (Resistor)
signal-integrity model Res
footprint AXIAL-0.4-UL (Pad 70mil Hole 40 mil Pour Machine PCB)
footprint AXIAL-0.7 (Axial Device, Thru-Hole; 2 Leads; 0.7 in Pin Spacing)
footprint AXIAL-0.7 (Axial Device, Thru-Hole; 2 Leads; 0.7 in Pin Spacing)
pins: 1, 2

## RJ45
designator J*, comment 446200001
RJ45 RA TH MOLEX
footprint RJ45 MOLEX 446200001 (RJ45 RA TH)
pins: 1, 2, 3, 4, 5, 6, 7, 8

## ScrewTerminal 2 Pos
designator ST*  (value not drawn)
Screw Terminal 2 Pos
footprint Screw Terminal 2Pos
footprint Screw Terminal 2Pos 3Walls
pins: 1, 2

## ScrewTerminal 3 Pos
designator ST*  (value not drawn)
Screw Terminal 3 Pos
footprint Screw Terminal 3Pos
footprint Screw Terminal 3Pos 3Walls
pins: 1, 2, 3

## ScrewTerminal 6 Pos
designator ST*  (value not drawn)
Screw Terminal 6 Pos
footprint Screw Terminal 6 Pos
pins: 1, 2, 3, 4, 5, 6

## ScrewTerminal 7 Pos
designator ST*  (value not drawn)
Screw Terminal 7 Pos
footprint Screw Terminal 7Pos 2Walls Stackable
pins: 1, 2, 3, 4, 5, 6, 7

## ScrewTerminal 8 Pos
designator ST*  (value not drawn)
Screw Terminal 8 Pos
footprint Screw Terminal 8 Pos
pins: 1, 2, 3, 4, 5, 6, 7, 8

## Shunt Amplifier
designator U?  Part Number: LT1999-20  (hidden comment: Shunt Amplifier)
Op-Amp SOIC8; Published: 8-Jun-2000; LatestRevisionDate: 17-Jul-2002; LatestRevisionNote: Re-released for DXP Platform.; DatasheetVersion: REV. B; PackageVersion: 1990; PackageReference: H-08A; Publisher: Altium Limited; PackageDescription: Can; 8 Leads; Pin Circle Dia. 5.08 mm; Lead Dia. 0.53 mm (max); ComponentLink1Description: Manufacturer Link; ComponentLink1URL: http://www.analog.com/
footprint SOIC8 (SOIC, 8-Leads, Body 0.150"W x 0.190"L Pitch 0.050")
pins: 1 +5V, 2 IN+, 3 IN-, 4 +5V (power), 5 GND, 6 REF, 7 OUT, 8 SD

## SSR MCPC2425C
designator SSR*
Solid State Relay
pins: 1 +Vcc, 2 Gnd, 3 Enable, 4 Vctrl, 5 M1, 6 M2
text: Logic Control

## Support Photo Detecteur
designator *
footprint Support Photo Detecteur D2

## Switch 3PDT
designator *
Switch
footprint Switch 3PDT
pins: 1, 2, 3, 4, 5, 6, 7, 8, 9

## Switch Push 4FS Series
designator SW*
Switch
footprint Switch Push 4FS (Unimec Switch Push 4FS)
pins: 1, 2, 3, 4

## Switch Push N.C.
designator SW*
Switch
footprint Switch Push Omron
pins: 1, 2

## Switch Push N.C. Hiden
designator SW*
Switch
footprint Switch Push Omron
pins: 1, 2

## Switch Push N.C. Mush
designator SW*
Switch
footprint Switch Push Omron
pins: 1, 2

## Switch Push N.O.
designator SW*
Switch
footprint Switch Push Omron
pins: 3, 4

## Switch Push NO
designator *
Switch
pins: 1, 2

## Switch Push Omron
designator *
Switch
footprint Switch Push Omron
pins: 1, 2, 3, 4

## Switch Rotary
designator SW*
Switch
pins: 1, 2, 3, 4

## Switch SPDT
designator SW*
Switch
pins: 1, 2, 3

## Switch SPDT Normal
designator SW*
Switch
pins: 1, 2, 3

## Switch SPST
designator SW*
Switch
pins: 1, 2

## Switch STST+Led
designator *
Switch
pins: 1, 2, 3

## Tab 0.250
designator T*
Tab 0.250 KeyStone 4966
footprint Tab 250 RA (Tab 250 RA KeyStone 4966)
footprint Tab 250 0D (Tab 250 0D Keystone 1287-ST)
pins: 1, 2

## TC428 V1
designator U*, comment TC428
MosFet Driver
footprint DIP8
pins: 1 nc, 2 In1, 3 Gnd, 4 In2, 5 Out2, 6 Vcc, 7 Out1, 8 nc

## TC428 V2
designator U*, comment TC428
MosFet Driver
footprint DIP8
pins: 1 nc, 2 In1, 3 Gnd, 4 In2, 5 Out2, 6 Vcc, 7 Out1, 8 nc

## TC428 V3
designator U*
MosFet Driver
footprint DIP8
pins: 1 nc, 2 In1, 3 Gnd, 4 In2, 5 Out2, 6 Vcc, 7 Out1, 8 nc

## TDA7396
designator U?
Op-Amp 65W Amplifier
footprint MultiWatt11
pins: 1 IN-, 2 IN+, 3 VCC+, 4 OVER, 5 OUT-, 6 VCC-, 7 OUT+, 8 SHDW, 9 VCC+, 10 RSS, 11 CSS

## Test Point Hook
designator TP*
Test Point Hook
footprint Test Point Loop (Test Point loop)
pins: 1 "Test Point", 1 "Test Point"

## Test Point Pad
designator TP*
Test Point Pad
footprint SQ Pad (Pad)
footprint Test Point Loop (Test Point loop)
pins: 1 "Test Point"

## Transistor NPN
designator Q*  Part Number: 2N3904  (hidden comment: *)
Transistor; Manufacturer: Vishay
footprint TO-92 V
pins: 1, 2, 3

## Transistor PNP
designator Q*  Part Number: 2N3906  (hidden comment: *)
Transistor; Manufacturer: Vishay
footprint TO-92 V
pins: 1, 2, 3

## Triac
designator Triac*, comment BTA26800CW
Triac; Published: 8-Jun-2000; LatestRevisionDate: 17-Jul-2002; LatestRevisionNote: Re-released for DXP Platform.; DatasheetVersion: 1998; PackageVersion: Aug-1999; PackageReference: DO-201AD; Publisher: Altium Limited; PackageDescription: Diode, Axial; Body 9.5 x 5.6 mm (LxDia. max), Lead Dia. 1.32 mm (max); ComponentLink1Description: Manufacturer Link; ComponentLink1URL: http://www.fairchildsemi.com/; ComponentLink2Description: Datasheet; ComponentLink2URL: http://www.fairchildsemi.com/ds/1N%2F1N5400.pdf
footprint TO-220 V (T0-220 V)
footprint TO-220 H+HeatPad (T0-220 H+HeatPad)
footprint TO3P
pins: 1 MT1, 2 MT2, 3 G

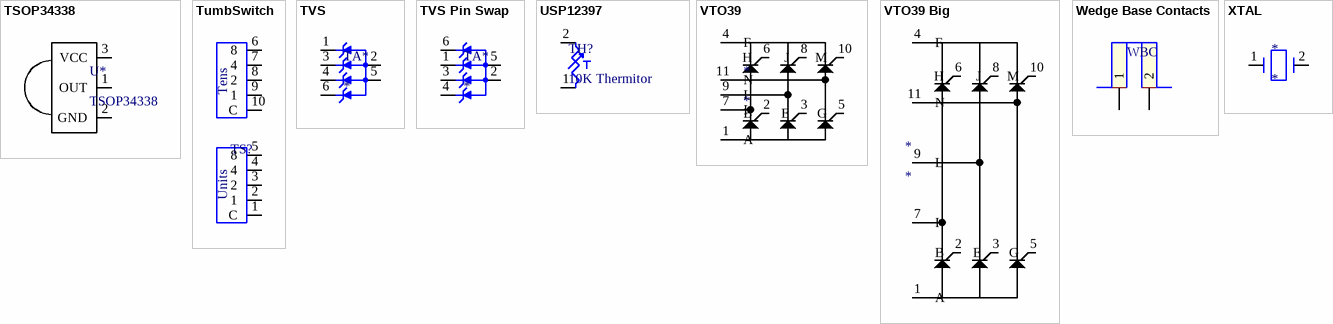
[diagram p4: symbols TSOP34338 to XTAL]

## TSOP34338
designator U*
IR Sensor
footprint TSOP (IR Sensor)
pins: 1 OUT, 2 GND, 3 VCC

## TumbSwitch
designator TS?  (value not drawn)
Switch; Published: 8-Jun-2000; LatestRevisionDate: 17-Jul-2002; LatestRevisionNote: Re-released for DXP Platform.; PackageReference: AXIAL-0.3; Publisher: Altium Limited; PackageDescription: Axial Device, Thru-Hole; 2 Leads; 0.3 in Pin Spacing
simulation model RESISTOR (Resistor)
signal-integrity model Res
footprint TumbSwitch
pins: 1 C, 2 1, 3 2, 4, 5 8, 6 8, 7 4, 8 2, 9 1, 10 C
text: Tens; Units

## TVS
designator TA*
Transcient Suppressor
footprint SOT23-6L
pins: 1, 2, 3, 4, 5, 6

## TVS Pin Swap
designator TA*
Transcient Suppressor
footprint SOT23-6L
pins: 1, 2, 3, 4, 5, 6

## USP12397
designator TH?, comment 10K Thermitor
Thermistor
footprint USP12397 (Thermistor Flex PCB)
pins: 1, 2

## VTO39
designator *
Power Module
footprint VTO39 (Module IXIS)
pins: 1 A, 2 B, 3 E, 4 F, 5 G, 6 H, 7 I, 8 J, 9 L, 10 M, 11 N

## VTO39 Big
designator *
Power Module
footprint VTO39 (Module IXIS)
pins: 1 A, 2 B, 3 E, 4 F, 5 G, 6 H, 7 I, 8 J, 9 L, 10 M, 11 N

## Wedge Base Contacts
designator WBC  (value not drawn)
Wedge Base Contacts
footprint Wedge Lamp Pads (Wedge Lamp Socket)
pins: 1, 2

## XTAL
designator *
Crystal
footprint HC49 (XTAL LOW PROFILE)
pins: 1, 2